# EAGLE library part CDCLVC1108 (library texas)
High-Performance Clock Buffer 3.3 V and 2.5 V LVCMOS
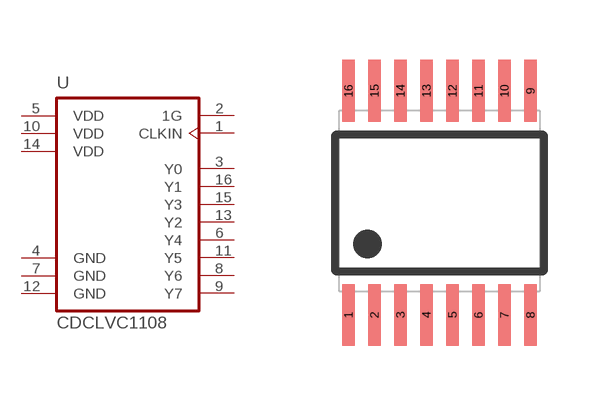
[diagram p44: symbol with the pads of TSSOP16; footprint TSSOP16]

Designator prefix U

## CDCLVC1108PW  [TSSOP16]
1  CLKIN  in
2  1G  in
3  Y0  out
4  GND  pwr
5  VDD  pwr
6  Y4  out
7  GND  pwr
8  Y6  out
9  Y7  out
10  VDD  pwr
11  Y5  out
12  GND  pwr
13  Y2  out
14  VDD  pwr
15  Y3  out
16  Y1  out

## Footprint TSSOP16 (pad centres in mm)
Thin Shrink Small Outline Plastic 16
smd 0.31 x 1.55: 1 -2.275,-2.8; 2 -1.625,-2.8; 3 -0.975,-2.8; 4 -0.325,-2.8; 5 0.325,-2.8; 6 0.975,-2.8; 7 1.625,-2.8; 8 2.275,-2.8; 9 2.275,2.8; 10 1.625,2.8; 11 0.975,2.8; 12 0.325,2.8; 13 -0.325,2.8; 14 -0.975,2.8; 15 -1.625,2.8; 16 -2.275,2.8